# Altium footprint library pwer_lib.PcbLib: 20 footprints (part 2 of 2)
Each footprint in its own frame and in the unit in brackets; x right, y up, seen from the top. Pads: shape width x height; smd on the part's side, far side on the other; paste and mask are expansions set on the pad; w line width, h text height; cw(c..) or ccw(c..) is an arc to the next point about the centre after c.
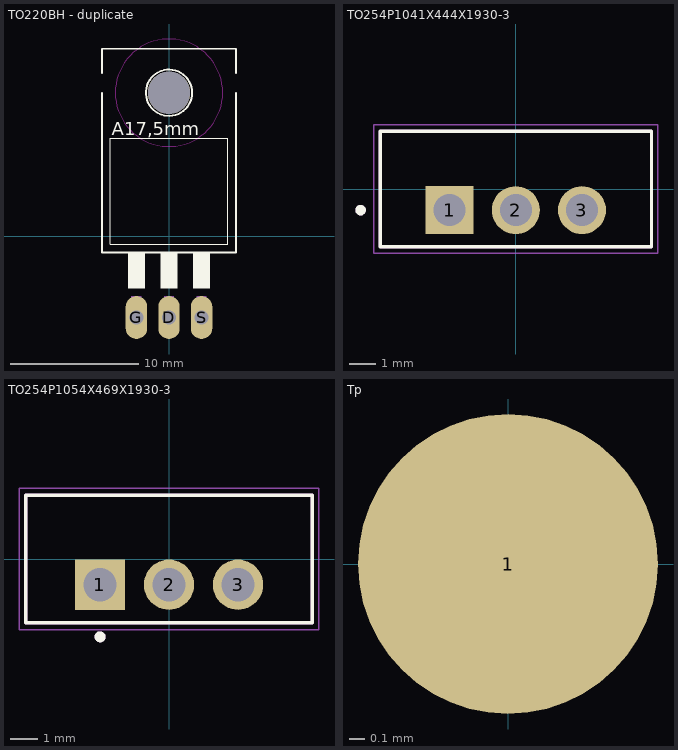
[diagram p1: the footprints below, top view; thin cyan lines are the x and y axes]

## TO220BH - duplicate [mil]
pads (4):
  oval 66x132 hole 44: D(0,-250) G(-100,-250) S(100,-250)
  round 130 hole 130 unplated: ""(0,440)
Top Overlay:
  circle w6: c0,440 r71
  region: 125,-160.21 75.1,-160.21 75.1,-50 125,-50
  region: 25,-160 -25,-160 -25,-50 25,-50
  region: -75,-160.01 -125.01,-160.01 -125.01,-50 -75,-50
  lines w2: -180,-25 -180,300 180,300 180,-25 -180,-25
  lines w6: -205,440 -205,-50 205,-50 205,440 ; -205,500 -205,575 205,575 205,500
  text "A17,5mm" at -175.07,310.12 h40.02
Keep-Out Layer:
  circle w0: c0,440 r165
  circle w0: c0,440 r165
Mechanical 13:
  region: 115,-260.19 85.06,-260.19 85.06,-185 115,-185
  region: 15,-260.51 -15.03,-260.51 -15.03,-185 15,-185
  region: -85,-260.29 -115.13,-260.29 -115.13,-185 -85,-185
3D body "step_temp.STEP": height 190, standoff -9.93, extent -200,-300 200,300

## TO254P1041X444X1930-3 [mm]
height 19.3
pads (3):
  rect 1.845x1.845 / inner round 1.845 / far side rect 1.845x1.845 hole 1.23: 1(-2.54,-0.81)
  round 1.845 hole 1.23: 2(0,-0.81) 3(2.54,-0.81)
Top Overlay:
  circle w0.2: c-5.957,-0.81 r0.1
  lines w0.127: -5.208,-2.222 -5.208,2.222 5.208,2.222 5.208,-2.222 -5.208,-2.222
Mechanical 13:
  circle w0.2: c-5.957,-0.81 r0.1
  lines w0.127: -5.208,-2.222 -5.208,2.222 5.208,2.222 5.208,-2.222 -5.208,-2.222
Mechanical 15:
  lines w0.05: -5.457,-2.472 5.457,-2.472 5.457,2.472 -5.457,2.472 -5.457,-2.472
3D body "step_temp.STEP": height 19.3, standoff -10.03, extent -5.207,-2.222 5.207,2.222

## TO254P1054X469X1930-3 [mm]
height 19.3
pads (3):
  rect 1.85x1.85 / inner round 1.85 / far side rect 1.85x1.85 hole 1.23: 1(-2.54,-0.94)
  round 1.85 hole 1.23: 2(0,-0.94) 3(2.54,-0.94)
Top Overlay:
  circle w0.2: c-2.54,-2.86 r0.1
  lines w0.127: -5.27,-2.35 5.27,-2.35 5.27,2.35 -5.27,2.35 -5.27,-2.35
Mechanical 13:
  circle w0.2: c-2.54,-2.86 r0.1
  lines w0.127: -5.27,-2.35 -5.27,2.35 5.27,2.35 5.27,-2.35 -5.27,-2.35
Mechanical 15:
  lines w0.05: -5.52,-2.6 5.52,-2.6 5.52,2.6 -5.52,2.6 -5.52,-2.6
3D body "step_temp.STEP": height 15.01, standoff -10.39, extent -5.08,-1.714 5.08,2.73

## Tp [mm]
pads (1):
  round 2 smd: 1(0,0)